# Altium footprint library SG__PCB_SOP.PcbLib: 25 footprints (part 1 of 2)
Each footprint in its own frame and in the unit in brackets; x right, y up, seen from the top. Pads: shape width x height; smd on the part's side, far side on the other; paste and mask are expansions set on the pad; w line width, h text height; cw(c..) or ccw(c..) is an arc to the next point about the centre after c.
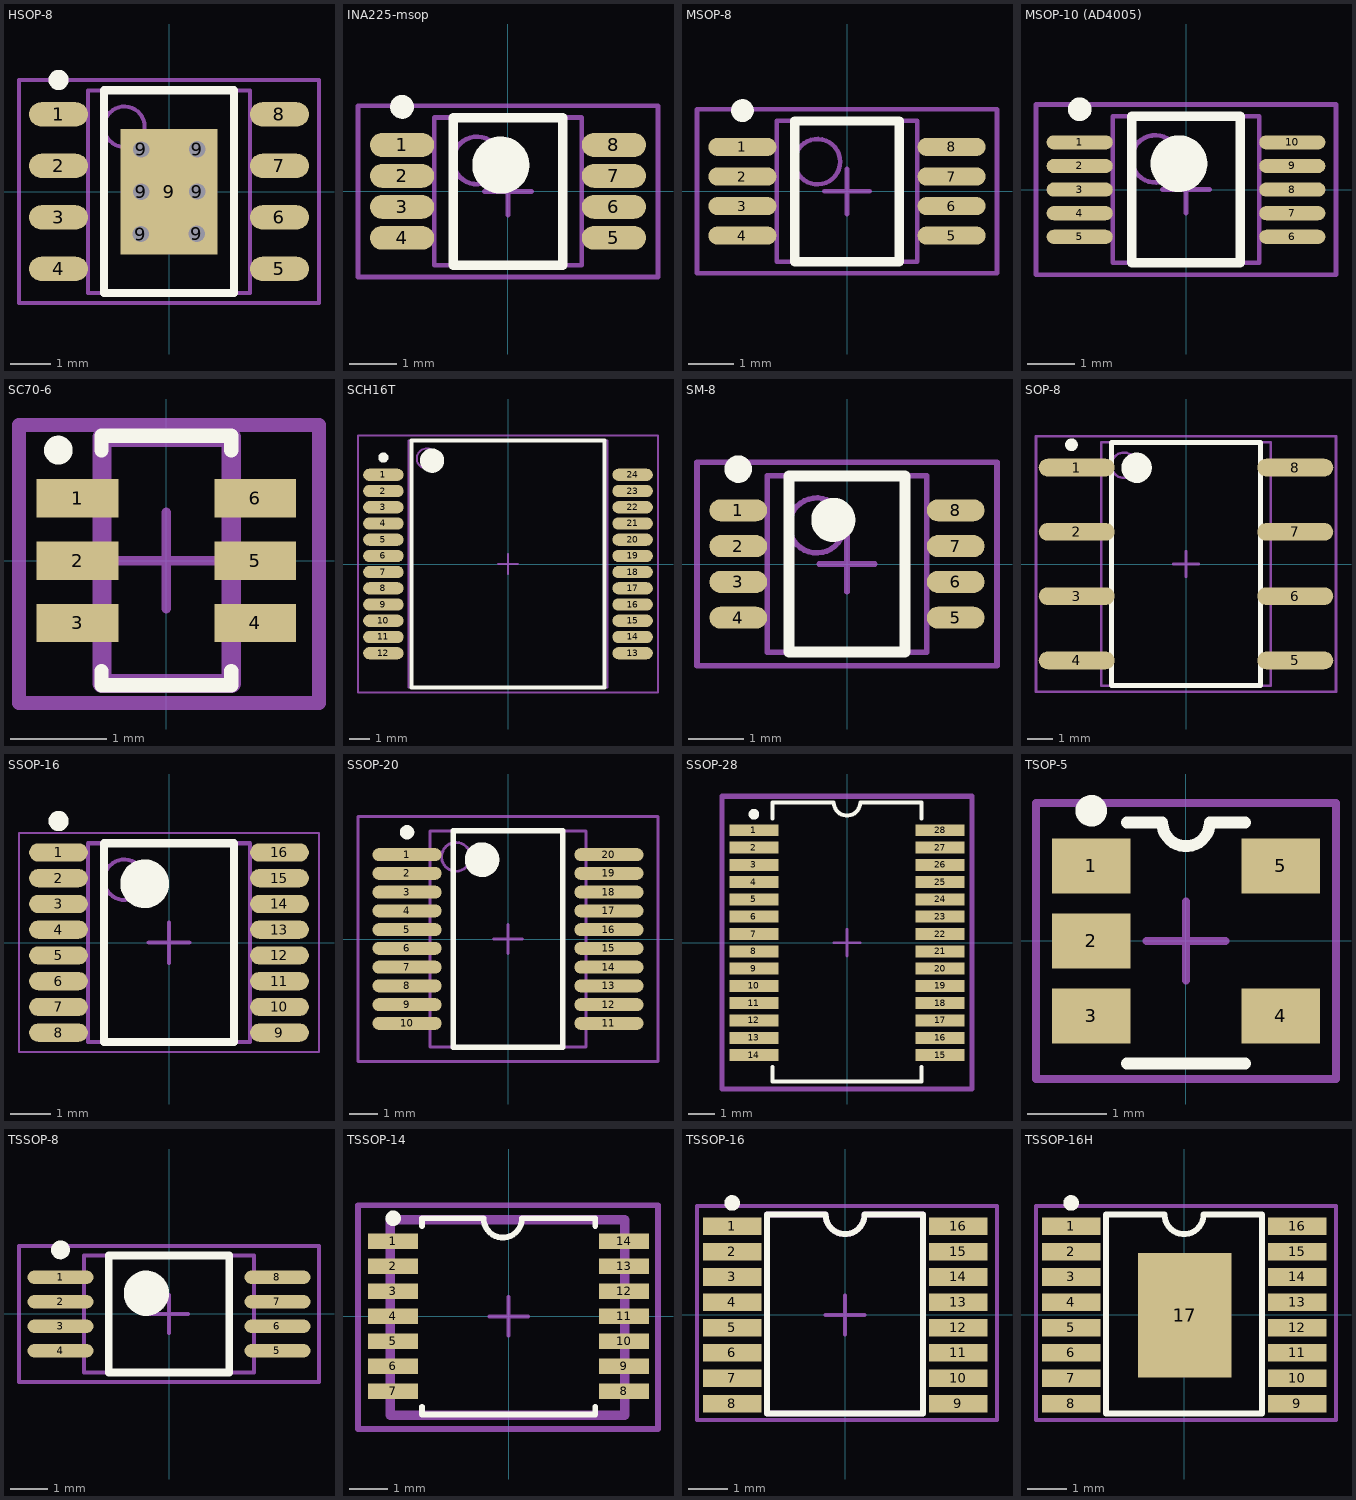
[diagram p0: the footprints below, top view; thin cyan lines are the x and y axes]

## HSOP-8 [mm] "SOP, 8-Leads, Body 4,90x3,90mm, Pitch 1,27mm, Thermal Pad 3,10x2,40mm, IPC Medium Density"
height 1.7
pads (15):
  oval 1.45x0.6 smd: 1(-2.725,1.905) 2(-2.725,0.635) 3(-2.725,-0.635) 4(-2.725,-1.905) 5(2.725,-1.905) 6(2.725,-0.635) 7(2.725,0.635) 8(2.725,1.905)
  round 0.8 hole 0.4: 9(-0.695,-1.046) 9(-0.686,-0.005) 9(-0.686,1.041) 9(0.686,-1.041) 9(0.695,0) 9(0.695,1.046)
  rect 2.4x3.1 smd: 9(0,0)
Top Overlay:
  circle w0.25: c-2.725,2.755 r0.125
  lines w0.2: -1.6,-2.5 -1.6,2.5 1.6,2.5 1.6,-2.5 -1.6,-2.5
Top Assembly:
  circle w0.1: c-1.1,1.6 r0.5
  lines w0.1: -2,-2.5 2,-2.5 2,2.5 -2,2.5 -2,-2.5
Top Courtyard:
  lines w0.1: -0.5,0 0.5,0 ; 0,-0.5 0,0.5 ; -3.7,-2.75 -3.7,2.75 3.7,2.75 3.7,-2.75 -3.7,-2.75
3D body "HSOP8.STEP": height 1.74, standoff -0.01, extent -3.1,-2.587 3.1,2.413

## INA225-msop [mm] "TSOP, 8-Leads, Body 3,00x3,00mm, Pitch 0,65mm, IPC Medium Density"
height 1.1
pads (8):
  oval 1.35x0.5 smd: 1(-2.225,0.975) 2(-2.225,0.325) 3(-2.225,-0.325) 4(-2.225,-0.975) 5(2.225,-0.975) 6(2.225,-0.325) 7(2.225,0.325) 8(2.225,0.975)
Top Overlay:
  circle w0.25: c-2.225,1.775 r0.125
  circle w0.6: c-0.15,0.55 r0.3
  lines w0.2: -1.15,-1.55 -1.15,1.55 1.15,1.55 1.15,-1.55 -1.15,-1.55
Top Assembly:
  circle w0.1: c-0.65,0.65 r0.5
  lines w0.1: -1.55,-1.55 -1.55,1.55 1.55,1.55 1.55,-1.55 -1.55,-1.55
Top Courtyard:
  lines w0.1: -0.5,0 0.5,0 ; 0,-0.5 0,0.5 ; -3.15,-1.8 3.15,-1.8 3.15,1.8 -3.15,1.8 -3.15,-1.8
3D body "MSOP-8.step": height 0.92, standoff 0, extent -2.54,-1.476 2.46,1.524

## MSOP-8 [mm] "TSOP, 8-Leads, Body 3,00x3,00mm, Pitch 0,65mm, IPC Medium Density"
height 1.1
pads (8):
  oval 1.5x0.4 smd: 1(-2.3,0.975) 2(-2.3,0.325) 3(-2.3,-0.325) 4(-2.3,-0.975) 5(2.3,-0.975) 6(2.3,-0.325) 7(2.3,0.325) 8(2.3,0.975)
Top Overlay:
  circle w0.25: c-2.3,1.775 r0.125
  lines w0.2: -1.15,-1.55 1.15,-1.55 1.15,1.55 -1.15,1.55 -1.15,-1.55
Top Assembly:
  circle w0.1: c-0.65,0.65 r0.5
  lines w0.1: -1.55,-1.55 -1.55,1.55 1.55,1.55 1.55,-1.55 -1.55,-1.55
Top Courtyard:
  lines w0.1: -0.5,0 0.5,0 ; 0,-0.5 0,0.5 ; -3.3,-1.8 -3.3,1.8 3.3,1.8 3.3,-1.8 -3.3,-1.8
3D body "MSOP-8.step": height 0.92, standoff 0, extent -2.5,-1.5 2.5,1.5

## MSOP-10 (AD4005) [mm] "TSSOP, 10-Leads, Body 3,00x3,00mm, Pitch 0,50mm, IPC Medium Density"
height 1.1
pads (10):
  oval 1.4x0.3 smd: 1(-2.25,1) 2(-2.25,0.5) 3(-2.25,0) 4(-2.25,-0.5) 5(-2.25,-1) 6(2.25,-1) 7(2.25,-0.5) 8(2.25,0) 9(2.25,0.5) 10(2.25,1)
Top Overlay:
  circle w0.25: c-2.25,1.7 r0.125
  circle w0.6: c-0.15,0.55 r0.3
  lines w0.2: -1.15,-1.55 -1.15,1.55 1.15,1.55 1.15,-1.55 -1.15,-1.55
Top Assembly:
  circle w0.1: c-0.65,0.65 r0.5
  lines w0.1: -1.55,-1.55 -1.55,1.55 1.55,1.55 1.55,-1.55 -1.55,-1.55
Top Courtyard:
  lines w0.1: -0.5,0 0.5,0 ; 0,-0.5 0,0.5 ; -3.175,-1.8 -3.175,1.8 3.175,1.8 3.175,-1.8 -3.175,-1.8
3D body "MSOP-10 (AD4005).step": height 1.1, standoff 0, extent -2.45,-1.55 2.45,1.55

## SC70-6 [mm]
pads (6):
  rect 0.85x0.4 smd mask+0.05: 1(-0.925,0.65) 2(-0.925,0) 3(-0.925,-0.65) 4(0.925,-0.65) 5(0.925,0) 6(0.925,0.65)
Top Overlay:
  circle w0.2: c-1.125,1.15 r0.05
  lines w0.15: -0.675,-1.15 -0.675,-1.3 0.675,-1.3 0.675,-1.15 ; -0.675,1.15 -0.675,1.3 0.675,1.3 0.675,1.15
Top Assembly:
  lines w0.2: -0.671,-1.28 -0.671,1.285 0.675,1.285 0.675,-1.28 -0.671,-1.28
Top Courtyard:
  lines w0.1: -0.5,0 0.5,0 ; 0,-0.5 0,0.5
  lines w0.15: -1.535,-1.484 -1.535,1.412 1.59,1.412 1.59,-1.484 -1.535,-1.484

## SCH16T [mm] "Package for SCH16T-K01"
height 2.87
pads (24):
  oval 2x0.6 smd: 1(-6.15,4.4) 2(-6.15,3.6) 3(-6.15,2.8) 4(-6.15,2) 5(-6.15,1.2) 6(-6.15,0.4) 7(-6.15,-0.4) 8(-6.15,-1.2) 9(-6.15,-2) 10(-6.15,-2.8) 11(-6.15,-3.6) 12(-6.15,-4.4) 13(6.15,-4.4) 14(6.15,-3.6) 15(6.15,-2.8) 16(6.15,-2) 17(6.15,-1.2) 18(6.15,-0.4) 19(6.15,0.4) 20(6.15,1.2) 21(6.15,2) 22(6.15,2.8) 23(6.15,3.6) 24(6.15,4.4)
Top Overlay:
  circle w0.6: c-3.75,5.1 r0.3
  circle w0.25: c-6.15,5.25 r0.125
  lines w0.2: -4.75,-6.1 4.75,-6.1 4.75,6.1 -4.75,6.1 -4.75,-6.1
Top Assembly:
  circle w0.1: c-4,5.2 r0.5
  lines w0.1: -4.9,-6.1 4.9,-6.1 4.9,6.1 -4.9,6.1 -4.9,-6.1
Top Courtyard:
  lines w0.1: -0.5,0 0.5,0 ; 0,-0.5 0,0.5 ; -7.4,-6.35 7.4,-6.35 7.4,6.35 -7.4,6.35 -7.4,-6.35
3D body "SCH16T-K10.stp": height 3, standoff 0, extent -6.7,-5.9 6.7,5.9

## SM-8 [mm] "TSOP, 8-Leads, Body 2,95x2,80mm, Pitch 0,65mm, IPC Medium Density"
height 1.3
pads (8):
  oval 1.05x0.4 smd: 1(-1.975,0.975) 2(-1.975,0.325) 3(-1.975,-0.325) 4(-1.975,-0.975) 5(1.975,-0.975) 6(1.975,-0.325) 7(1.975,0.325) 8(1.975,0.975)
Top Overlay:
  circle w0.25: c-1.975,1.725 r0.125
  circle w0.4: c-0.25,0.8 r0.2
  lines w0.2: -1.05,-1.6 -1.05,1.6 1.05,1.6 1.05,-1.6 -1.05,-1.6
Top Assembly:
  circle w0.1: c-0.55,0.7 r0.5
  lines w0.1: -1.45,-1.6 -1.45,1.6 1.45,1.6 1.45,-1.6 -1.45,-1.6
Top Courtyard:
  lines w0.1: -0.5,0 0.5,0 ; 0,-0.5 0,0.5 ; -2.725,-1.85 -2.725,1.85 2.725,1.85 2.725,-1.85 -2.725,-1.85
3D body "DCT-8.STEP": height 1.3, standoff 0, extent -2.1,-1.55 2.1,1.5

## SOP-8 [mm] "SOP, 8-Leads, Body 9.50x6.62mm, Pitch 2.54mm, IPC Medium Density"
height 4.85
pads (8):
  oval 3x0.7 smd: 1(-4.318,3.81) 2(-4.318,1.27) 3(-4.318,-1.27) 4(-4.318,-3.81) 5(4.318,-3.81) 6(4.318,-1.27) 7(4.318,1.27) 8(4.318,3.81)
Top Overlay:
  circle w0.25: c-4.525,4.71 r0.125
  circle w0.6: c-1.95,3.8 r0.3
  lines w0.2: -2.95,-4.8 -2.95,4.8 2.95,4.8 2.95,-4.8 -2.95,-4.8
Top Assembly:
  circle w0.1: c-2.45,3.9 r0.5
  lines w0.1: -3.35,-4.8 -3.35,4.8 3.35,4.8 3.35,-4.8 -3.35,-4.8
Top Courtyard:
  lines w0.1: -0.5,0 0.5,0 ; 0,-0.5 0,0.5 ; -5.925,-5.05 -5.925,5.05 5.925,5.05 5.925,-5.05 -5.925,-5.05
3D body "sop8-2_54.step": height 2.05, standoff 0, extent -3.498,-4.7 3.302,4.7

## SSOP-16 [mm] "TSOP, 16-Leads, Body 4,90x3,90mm, Pitch 0,64mm, IPC Medium Density"
height 1.55
pads (16):
  oval 1.45x0.45 smd: 1(-2.725,2.222) 2(-2.725,1.587) 3(-2.725,0.953) 4(-2.725,0.318) 5(-2.725,-0.318) 6(-2.725,-0.953) 7(-2.725,-1.587) 8(-2.725,-2.222) 9(2.725,-2.222) 10(2.725,-1.587) 11(2.725,-0.953) 12(2.725,-0.318) 13(2.725,0.318) 14(2.725,0.953) 15(2.725,1.587) 16(2.725,2.222)
Top Overlay:
  circle w0.25: c-2.725,2.997 r0.125
  circle w0.6: c-0.6,1.45 r0.3
  lines w0.2: -1.6,-2.45 -1.6,2.45 1.6,2.45 1.6,-2.45 -1.6,-2.45
Top Assembly:
  circle w0.1: c-1.1,1.55 r0.5
  lines w0.1: -2,-2.45 -2,2.45 2,2.45 2,-2.45 -2,-2.45
Top Courtyard:
  lines w0.05: -3.7,-2.7 3.7,-2.7 3.7,2.7 -3.7,2.7 -3.7,-2.7
  lines w0.1: -0.5,0 0.5,0 ; 0,-0.5 0,0.5
3D body: height 1.55, standoff 0.05, extent -2,-2.45 2,2.45

## SSOP-20 [mm] "SOP, 20-Leads, Body 7.2x5.3mm, Pitch 0.65mm, IPC Low Density"
height 1.99
pads (20):
  oval 2.4x0.45 smd: 1(-3.5,2.925) 2(-3.5,2.275) 3(-3.5,1.625) 4(-3.5,0.975) 5(-3.5,0.325) 6(-3.5,-0.325) 7(-3.5,-0.975) 8(-3.5,-1.625) 9(-3.5,-2.275) 10(-3.5,-2.925) 11(3.5,-2.925) 12(3.5,-2.275) 13(3.5,-1.625) 14(3.5,-0.975) 15(3.5,-0.325) 16(3.5,0.325) 17(3.5,0.975) 18(3.5,1.625) 19(3.5,2.275) 20(3.5,2.925)
Top Overlay:
  circle w0.25: c-3.5,3.7 r0.125
  circle w0.6: c-0.9,2.75 r0.3
  lines w0.2: -1.9,-3.75 -1.9,3.75 1.9,3.75 1.9,-3.75 -1.9,-3.75
Top Assembly:
  circle w0.1: c-1.8,2.85 r0.5
  lines w0.1: -2.7,-3.75 2.7,-3.75 2.7,3.75 -2.7,3.75 -2.7,-3.75
Top Courtyard:
  lines w0.1: -0.5,0 0.5,0 ; 0,-0.5 0,0.5 ; -5.2,-4.25 5.2,-4.25 5.2,4.25 -5.2,4.25 -5.2,-4.25
3D body "SSOP_20.step": height 1.79, standoff -0.05, extent -3.95,-3.65 3.95,3.65

## SSOP-28 [mm]
pads (28):
  rect 1.85x0.45 smd mask+0.05: 1(-3.5,4.225) 2(-3.5,3.575) 3(-3.5,2.925) 4(-3.5,2.275) 5(-3.5,1.625) 6(-3.5,0.975) 7(-3.5,0.325) 8(-3.5,-0.325) 9(-3.5,-0.975) 10(-3.5,-1.625) 11(-3.5,-2.275) 12(-3.5,-2.925) 13(-3.5,-3.575) 14(-3.5,-4.225) 15(3.5,-4.225) 16(3.5,-3.575) 17(3.5,-2.925) 18(3.5,-2.275) 19(3.5,-1.625) 20(3.5,-0.975) 21(3.5,-0.325) 22(3.5,0.325) 23(3.5,0.975) 24(3.5,1.625) 25(3.5,2.275) 26(3.5,2.925) 27(3.5,3.575) 28(3.5,4.225)
Top Overlay:
  circle w0.2: c-3.5,4.825 r0.1
  lines w0.15: -2.8,-4.675 -2.8,-5.225 2.8,-5.225 2.8,-4.675 ; -2.8,4.675 -2.8,5.275 -0.5,5.275 ccw(c0,5.275) 0.5,5.275 2.8,5.275 2.8,4.675
Top Courtyard:
  lines w0.1: -0.5,0 0.5,0 ; 0,-0.5 0,0.5
  lines w0.2: -4.7,-5.5 4.7,-5.5 4.7,5.5 -4.7,5.5 -4.7,-5.5
3D body "SSOP-28.step": height 2.15, standoff 0, extent -3.949,-5.131 3.807,5.199

## TSOP-5 [mm]
pads (5):
  rect 1x0.7 smd mask+0.05: 1(-1.2,0.95) 2(-1.2,0) 3(-1.2,-0.95) 4(1.2,-0.95) 5(1.2,0.95)
Top Overlay:
  circle w0.2: c-1.2,1.65 r0.1
  lines w0.15: -0.75,-1.55 0.75,-1.55 ; -0.75,1.5 -0.3,1.5 ccw(c0,1.5) 0.3,1.5 0.75,1.5
Top Courtyard:
  lines w0.1: -0.5,0 0.5,0 ; 0,-0.5 0,0.5 ; -1.9,-1.75 1.9,-1.75 1.9,1.75 -1.9,1.75 -1.9,-1.75

## TSSOP-8 [mm] "TSOP, 8-Leads, Body 3,1x4,5mm (max), Pitch 0,65mm, IPC Medium Density"
height 1.2
pads (8):
  oval 1.75x0.35 smd: 1(-2.875,0.975) 2(-2.875,0.325) 3(-2.875,-0.325) 4(-2.875,-0.975) 5(2.875,-0.975) 6(2.875,-0.325) 7(2.875,0.325) 8(2.875,0.975)
Top Overlay:
  circle w0.6: c-0.6,0.55 r0.3
  circle w0.25: c-2.875,1.7 r0.125
  lines w0.2: -1.6,-1.55 1.6,-1.55 1.6,1.55 -1.6,1.55 -1.6,-1.55
Top Assembly:
  lines w0.1: -2.25,-1.55 2.25,-1.55 2.25,1.55 -2.25,1.55 -2.25,-1.55
Top Courtyard:
  lines w0.1: -0.5,0 0.5,0 ; 0,-0.5 0,0.5 ; -3.975,-1.8 -3.975,1.8 3.975,1.8 3.975,-1.8 -3.975,-1.8
3D body "User Library-TSS0P8-1.step": height 1.09, standoff 0, extent -3.089,-1.499 3.191,1.501

## TSSOP-14 [mm]
pads (14):
  rect 1.3x0.4 smd mask+0.05: 1(-3,1.95) 2(-3,1.3) 3(-3,0.65) 4(-3,0) 5(-3,-0.65) 6(-3,-1.3) 7(-3,-1.95) 8(3,-1.95) 9(3,-1.3) 10(3,-0.65) 11(3,0) 12(3,0.65) 13(3,1.3) 14(3,1.95)
Top Overlay:
  circle w0.2: c-3,2.55 r0.1
  lines w0.15: -2.25,-2.35 -2.25,-2.55 2.25,-2.55 2.25,-2.35 ; -2.25,2.35 -2.25,2.55 -0.65,2.55 ccw(c-0.15,2.55) 0.35,2.55 2.25,2.55 2.25,2.35
Top Assembly:
  lines w0.254: -3.076,-2.571 -3.076,2.509 3.02,2.509 3.02,-2.571 -3.076,-2.571
Top Courtyard:
  lines w0.1: -0.5,0 0.5,0 ; 0,-0.5 0,0.5
  lines w0.15: -3.914,-2.927 3.883,-2.927 3.883,2.89 -3.914,2.89 -3.914,-2.927
3D body "User Library-TSSOP14-1.step": height 1.1, standoff 0, extent -3.177,-2.506 3.223,2.494

## TSSOP-16 [mm]
pads (16):
  rect 1.5x0.45 smd mask+0.05: 1(-2.9,2.275) 2(-2.9,1.625) 3(-2.9,0.975) 4(-2.9,0.325) 5(-2.9,-0.325) 6(-2.9,-0.975) 7(-2.9,-1.625) 8(-2.9,-2.275) 9(2.9,-2.275) 10(2.9,-1.625) 11(2.9,-0.975) 12(2.9,-0.325) 13(2.9,0.325) 14(2.9,0.975) 15(2.9,1.625) 16(2.9,2.275)
Top Overlay:
  circle w0.2: c-2.9,2.875 r0.1
  lines w0.15: -2,-2.525 -2,2.575 -0.5,2.575 ccw(c0,2.575) 0.5,2.575 2,2.575 2,-2.525 -2,-2.525
Top Assembly:
  lines w0.15: -2,-2.525 -2,2.575 -0.5,2.575 ccw(c0,2.575) 0.5,2.575 2,2.575 2,-2.525 -2,-2.525
Top Courtyard:
  lines w0.1: -0.5,0 0.5,0 ; 0,-0.5 0,0 ; 0,0.5 0,0 ; 0,0 0,0 ; -3.8,-2.7 3.9,-2.7 3.9,2.8 -3.8,2.8 -3.8,-2.7
3D body "TSSOP-16.step": height 1, standoff 0, extent -3.2,-2.5 3.2,2.5

## TSSOP-16H [mm]
pads (17):
  rect 1.5x0.45 smd mask+0.05: 1(-2.9,2.275) 2(-2.9,1.625) 3(-2.9,0.975) 4(-2.9,0.325) 5(-2.9,-0.325) 6(-2.9,-0.975) 7(-2.9,-1.625) 8(-2.9,-2.275) 9(2.9,-2.275) 10(2.9,-1.625) 11(2.9,-0.975) 12(2.9,-0.325) 13(2.9,0.325) 14(2.9,0.975) 15(2.9,1.625) 16(2.9,2.275)
  rect 2.4x3.2 smd: 17(0.021,-0.011)
Top Overlay:
  circle w0.2: c-2.9,2.875 r0.1
  lines w0.15: -2,-2.525 2,-2.525 2,2.575 0.5,2.575 cw(c0,2.575) -0.5,2.575 -2,2.575 -2,-2.525
Top Courtyard:
  lines w0.1: -0.5,0 0.5,0 ; 0,-0.5 0,0 ; 0,0.5 0,0 ; 0,0 0,0 ; -3.8,-2.7 3.9,-2.7 3.9,2.8 -3.8,2.8 -3.8,-2.7
3D body "TSSOP-16.step": height 1, standoff 0, extent -3.179,-2.511 3.221,2.489